# Altium footprint library DO-27.PcbLib: 1 footprints
Each footprint in its own frame and in the unit in brackets; x right, y up, seen from the top. Pads: shape width x height; smd on the part's side, far side on the other; paste and mask are expansions set on the pad; w line width, h text height; cw(c..) or ccw(c..) is an arc to the next point about the centre after c.
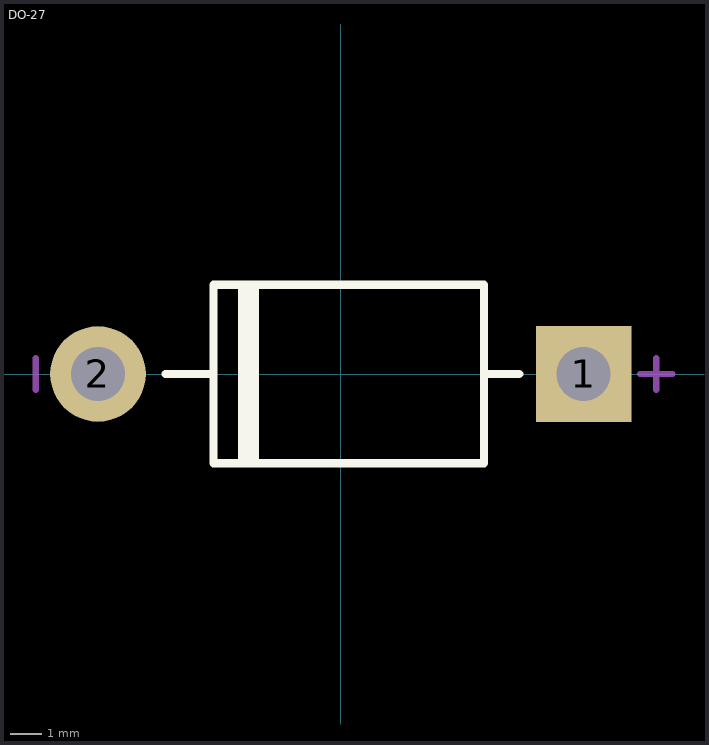
[diagram p0: the footprint, top view; thin cyan lines are the x and y axes]

## DO-27 [mm]
pads (2):
  rect 3x3 hole 1.7: 1(7.62,0)
  round 3 hole 1.7: 2(-7.62,0)
Top Overlay:
  lines w0.254: -5.5,0 -4,0 ; -3.1,-2.8 -3.1,2.8 ; -2.9,-2.8 -2.9,2.8 ; -2.7,-2.8 -2.7,2.8 ; 4.5,0 5.6,0 ; -4,-2.8 -4,2.8 4.5,2.8 4.5,-2.8 -4,-2.8
Mechanical 15:
  lines w0.203: -9.57,-0.5 -9.57,0.5 ; 9.4,0 10.4,0 ; 9.9,-0.5 9.9,0.5
3D body: height 6.6, standoff -5, extent -8.28,-2.8 8.28,2.8